# EAGLE library part TJA1051T_3_TJA1051T/3 (library stm_board_f407)
High-speed CAN transceiver The TJA1051 is a high-speed CAN transceiver that provides an interface between a Controller Area Network (CAN) protocol controller and the physical two-wire CAN bus. The transceiver is designed for high-speed (up to 1 Mbit/s) CAN applications in the automotive industry, providing differential transmit and receive capability to (a microcontroller with) a CAN protocol controller. The TJA1051 belongs to the third generation of high-speed CAN transceivers from NXP Semiconductors, offering significant improvements over first- and second-generation devices such as the TJA1050. It offers improved ElectroMagnetic Compatibility (EMC) and ElectroStatic Discharge (ESD) performance, and also features: Ideal passive behavior to the CAN bus when the supply voltage is off TJA1051T/3 and TJA1051TK/3 can be interfaced directly to microcontrollers with supply voltages from 3 V to 5 V These features make the TJA1051 an excellent choice for all types of HS-CAN networks, in nodes that do not require a standby mode with wake-up capability via the bus. AAL Eindhoven MK Check prices <https://pricing.snapeda.com/search/part/TJA1051T/3/?ref=eda>
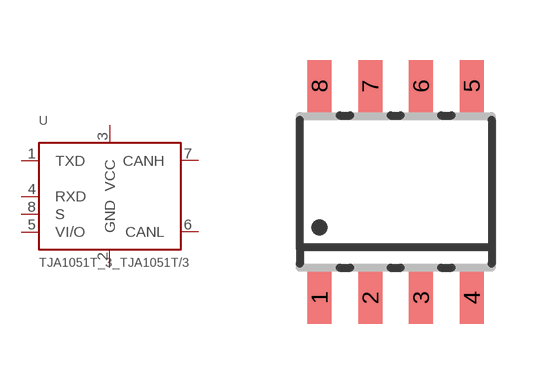
[diagram p1: symbol with the pads of TJA1051T_3_SOT96-1; footprint TJA1051T_3_SOT96-1]

Designator prefix U

## TJA1051T_3_TJA1051T/3 (AVAILABILITY: Bad; DESCRIPTION: 1/1 Transceiver Half CANbus 8-SO; MF: NXP Semiconductors; MP: TJA1051T/3; PACKAGE: SOIC-8 NXP Semiconductors; PRICE: None)  [TJA1051T_3_SOT96-1]
1  TXD  out
2  GND
3  VCC
4  RXD
5  VI/O  pas
6  CANL
7  CANH
8  S  pwr

## Footprint TJA1051T_3_SOT96-1 (pad centres in mm)
SOT96-1 SO8: plastic small outline package; 8 leads; body width 3.9 mm JEDEC: MS-012 IEC: 076E03
smd 0.6 x 1.3: 1 -1.905,-2.65; 2 -0.635,-2.65; 3 0.635,-2.65; 4 1.905,-2.65; 5 1.905,2.65; 6 0.635,2.65; 7 -0.635,2.65; 8 -1.905,2.65